# Altium footprint library AYF531635.PCBLIB: 1 footprints
Each footprint in its own frame and in the unit in brackets; x right, y up, seen from the top. Pads: shape width x height; smd on the part's side, far side on the other; paste and mask are expansions set on the pad; w line width, h text height; cw(c..) or ccw(c..) is an arc to the next point about the centre after c.
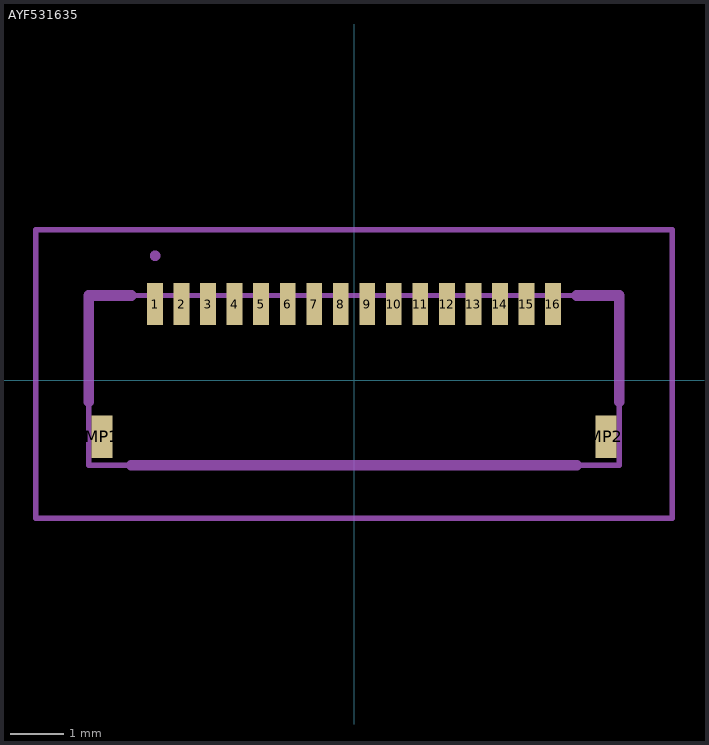
[diagram p0: the footprint, top view; thin cyan lines are the x and y axes]

## AYF531635 [mil]
pads (18):
  rect 11.81x31.5 smd: 1(-147.64,56.69) 2(-127.95,56.69) 3(-108.27,56.69) 4(-88.58,56.69) 5(-68.9,56.69) 6(-49.21,56.69) 7(-29.53,56.69) 8(-9.84,56.69) 9(9.84,56.69) 10(29.53,56.69) 11(49.21,56.69) 12(68.9,56.69) 13(88.58,56.69) 14(108.27,56.69) 15(127.95,56.69) 16(147.64,56.69)
  rect 15.75x31.5 smd: MP1(-187.01,-41.73) MP2(187.01,-41.73)
tDocu:
  lines w3.94: -236.22,-102.36 236.22,-102.36 236.22,111.81 -236.22,111.81 -236.22,-102.36 ; -196.85,-62.99 196.85,-62.99 196.85,62.99 -196.85,62.99 -196.85,-62.99
tPlace:
  lines w3.94: -147.64,90.55 cw(c-147.64,92.52) -147.64,94.49 ; -147.64,90.55 -147.64,90.55 ; -147.64,90.55 ccw(c-147.64,92.52) -147.64,94.49 ; -147.64,94.49 -147.64,94.49
  lines w7.87: -196.85,-15.75 -196.85,62.99 -165.35,62.99 ; -165.35,-62.99 165.35,-62.99 ; 165.35,62.99 196.85,62.99 196.85,-15.75